# Altium integrated library LED.IntLib: 1 symbol
Pins are listed as number, name and electrical type; pins without a type are passive.

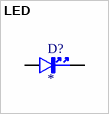
[diagram p0: symbol LED]

## LED
designator D?
BUY_LINK: *; ID: *; PDF: *; PRICE: *
footprint LED_1206_Y
footprint LED_1206_G
footprint LED_1206_R
footprint LED_0603_G
footprint LED_0603_R
footprint LED_3mm
footprint LED_0603_G
footprint LED_0603_0805_G
footprint LED_0805_RIGHT
pins: A, K